# Altium footprint library 8PCV-02-006.PcbLib: 1 footprints
Each footprint in its own frame and in the unit in brackets; x right, y up, seen from the top. Pads: shape width x height; smd on the part's side, far side on the other; paste and mask are expansions set on the pad; w line width, h text height; cw(c..) or ccw(c..) is an arc to the next point about the centre after c.
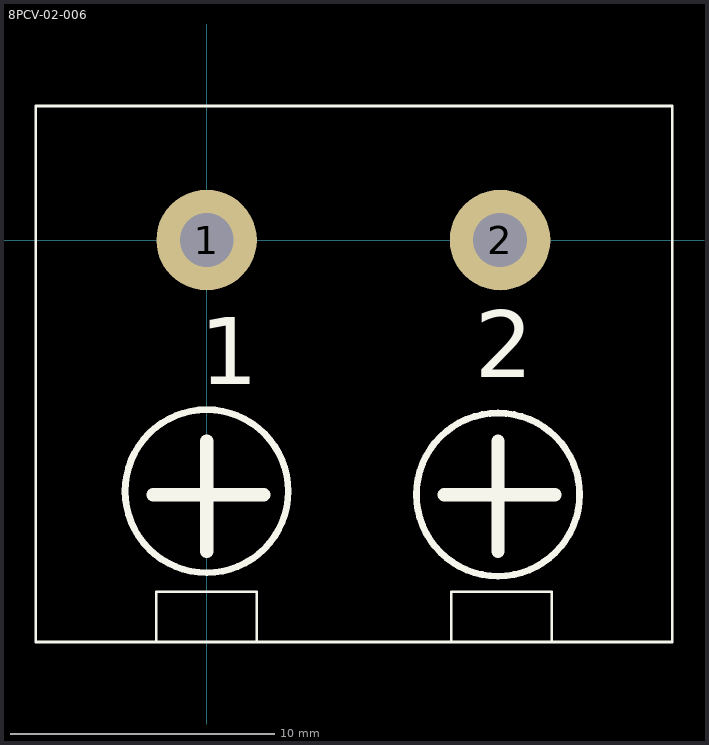
[diagram p0: the footprint, top view; thin cyan lines are the x and y axes]

## 8PCV-02-006 [mil]
pads (2):
  round 150 hole 80: 1(0,0) 2(438,0)
Top Overlay:
  circle w10: c0,-375 r121.76
  circle w10: c435,-380 r121.76
  lines w3.94: -75,-600 -75,-525 75,-525 75,-600 ; 365,-600 365,-525 515,-525 515,-600 ; -255,-600 695,-600 695,200 -255,200 -255,-600
  lines w20: -80,-380 85,-380 ; 0,-465 0,-300 ; 355,-380 520,-380 ; 435,-465 435,-300
  text "2" at 400,-205 h100
  text "1" at -10,-215 h100
3D body "8pcv-02-006.stp": height 770, standoff -185, extent -254,-600 694,200